# Altium integrated library labrador.IntLib: 32 symbols
Pins are listed as number, name and electrical type; pins without a type are passive.

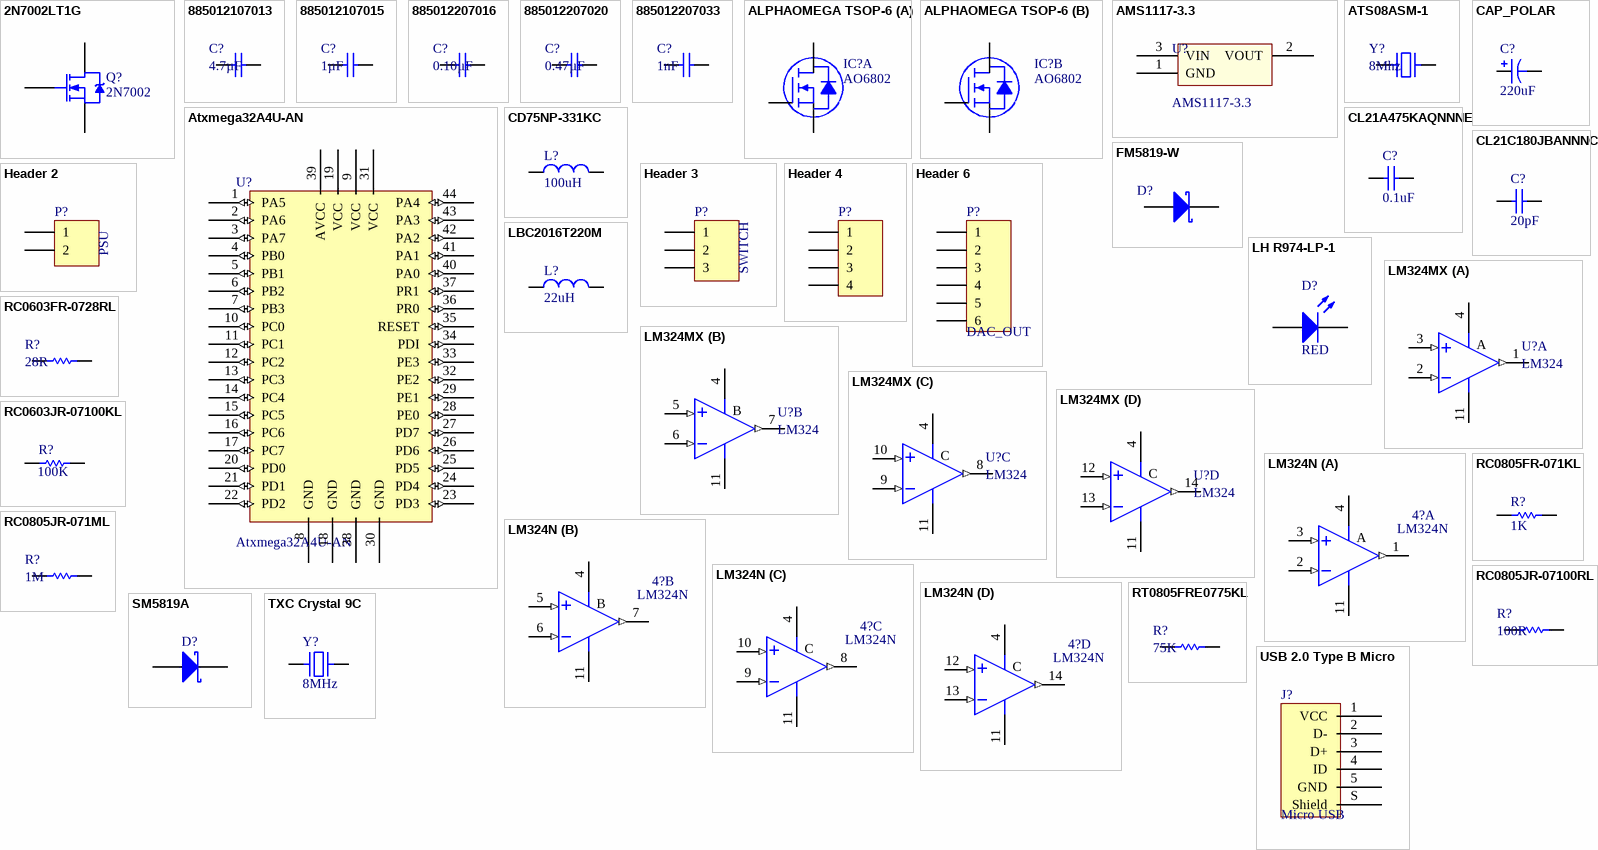
[diagram p0: symbols 2N7002LT1G to USB 2.0 Type B Micro]

## 2N7002LT1G
designator Q?, comment 2N7002
MOSFET N-CH 60V 0.115A SOT-23; Manufacturer: ON Semiconductor; Manufacturer Part Number: 2N7002LT1G; FET Type: N-Channel; Current - Continuous Drain (Id) @ 25°C: 115mA (Tc); Drive Voltage (Max Rds On,  Min Rds On): 5V, 10V; Vgs(th) (Max) @ Id: 2.5V @ 250µA; Input Capacitance (Ciss) (Max) @ Vds: 50pF @ 25V; Vgs (Max): ±20V; Power Dissipation (Max): 225mW (Ta); Rds On (Max) @ Id, Vgs: 7.5 Ohm @ 500mA, 10V; Supplier 1: Digi-Key; RoHS: RoHS Compliant; Category: Discrete Semiconductor Products; Stock 1: 446807; Pricing 1: 1=0.14, 10=0.129, 100=0.0704, 500=0.0433, 1000=0.02952 (USD); Packaging: Cut Tape (CT); Part Status: Active; Technology: MOSFET (Metal Oxide); Drain to Source Voltage (Vdss): 60V; Gate Charge (Qg) (Max) @ Vgs: -; FET Feature: -; Operating Temperature: -55°C ~ 150°C (TJ); Mounting Type: Surface Mount; Supplier Device Package: SOT-23-3 (TO-236); Package / Case: TO-236-3, SC-59, SOT-23-3; ComponentLink1URL: http://www.onsemi.com/pub_link/Collateral/2N7002L-D.PDF; ComponentLink1Description: http://www.onsemi.com/pub_link/Collateral/2N7002L-D.PDF
footprint SOT23-3P95_230X110L30X43N (Small Outline Transistor (SOT23), 0.95 mm pitch; 3 pin, 2.90 mm L X 1.30 mm W X 1.10 mm H body)
pins: 1 G, 2 S, 3 D

## 885012107013
designator C?, comment 4.7µF
4.7µF 16V Ceramic Capacitor X5R 0805 (2012 Metric) 0.079" L x 0.049" W (2.00mm x 1.25mm); Manufacturer: Wurth Electronics; Manufacturer Part Number: 885012107013; Capacitance: 4.7uF; Tolerance: 20%; Supplier 1: Farnell; Stock 1: 0; Mount: Surface Mount; Case/Package: 0805; Case Code (Metric): 2012; Case Code (Imperial): 0805; Min Operating Temperature: -55°C; Max Operating Temperature: 85°C; Packaging: Tape and Reel; Voltage Rating: 16V; Length: 0.079inch; Width: 0.049inch; Thickness: 0.057inch
footprint CAPC200X125X75L45N
pins: 1, 2

## 885012107015
designator C?, comment 1µF
1µF 25V Ceramic Capacitor X5R 0805 (2012 Metric) 0.079" L x 0.049" W (2.00mm x 1.25mm); Manufacturer: Wurth Electronics; Manufacturer Part Number: 885012107015; Capacitance: 1uF; Tolerance: 20%; Supplier 1: Farnell; Stock 1: 0; Mount: Surface Mount; Case/Package: 0805; Case Code (Metric): 2012; Case Code (Imperial): 0805; Min Operating Temperature: -55°C; Max Operating Temperature: 85°C; Packaging: Tape and Reel; Voltage Rating: 25V; Length: 0.079inch; Width: 0.049inch; Thickness: 0.053inch
footprint CAPC200X125X75L45N
pins: 1, 2

## 885012207016
designator C?, comment 0.10µF
0.10µF 10V Ceramic Capacitor X7R 0805 (2012 Metric) 0.079" L x 0.049" W (2.00mm x 1.25mm); Manufacturer: Wurth Electronics; Manufacturer Part Number: 885012207016; Capacitance: 100nF; Tolerance: 10%; Supplier 1: Mouser; Stock 1: 13980; Pricing 1: 1=0.1, 10=0.045, 50=0.045, 100=0.04, 1000=0.035, 10000=0.035 (USD); Mount: Surface Mount; Case/Package: 0805; Case Code (Metric): 2012; Case Code (Imperial): 0805; Min Operating Temperature: -55°C; Max Operating Temperature: 125°C; Packaging: Cut Tape; Voltage Rating: 10V; Length: 0.079inch; Width: 0.049inch; Thickness: 0.035inch
footprint CAPC200X125X75L45N
pins: 1, 2

## 885012207020
designator C?, comment 0.47µF
0.47µF 10V Ceramic Capacitor X7R 0805 (2012 Metric) 0.079" L x 0.049" W (2.00mm x 1.25mm); Manufacturer: Wurth Electronics; Manufacturer Part Number: 885012207020; Capacitance: 470nF; Tolerance: 10%; Supplier 1: Newark; Stock 1: 2295; Pricing 1: 5=0.11, 10=0.098, 25=0.095, 50=0.091, 100=0.088, 250=0.083, 500=0.078 (USD); Mount: Surface Mount; Case/Package: 0805; Case Code (Metric): 2012; Case Code (Imperial): 0805; Min Operating Temperature: -55°C; Max Operating Temperature: 125°C; Packaging: Tape and Reel; Voltage Rating: 10V; Length: 0.079inch; Width: 0.049inch; Thickness: 0.053inch
footprint CAPC200X125X75L45N
pins: 1, 2

## 885012207033
designator C?, comment 1nF
1000pF 16V Ceramic Capacitor X7R 0805 (2012 Metric) 0.079" L x 0.049" W (2.00mm x 1.25mm); Manufacturer: Wurth Electronics; Manufacturer Part Number: 885012207033; Tolerance: 10%; Supplier 1: Newark; Stock 1: 3260; Pricing 1: 10=0.035, 25=0.034, 50=0.032, 100=0.031, 250=0.03, 500=0.028 (USD); Mount: Surface Mount; Case/Package: 0805; Case Code (Metric): 2012; Case Code (Imperial): 0805; Min Operating Temperature: -55°C; Max Operating Temperature: 125°C; Packaging: Tape and Reel; Capacitance: 1nF; Voltage Rating: 16V; Length: 0.079inch; Width: 0.049inch; Thickness: 0.035inch
footprint CAPC200X125X75L45N
pins: 1, 2

## ALPHAOMEGA TSOP-6
designator IC?, comment AO6802
MOSFET 2N-CH 30V 3.5A 6-TSOP; Manufacturer: Alpha & Omega; Rds On (Max) at Id, Vgs: 50 mOhm @ 3.5A, 10V; Vgs(th) (Max) at Id: 2.5V @ 250µA; Gate Charge (Qg): 5nC @ 10V; Input Capacitance (Ciss) at Vds: 210pF @ 15V; Power - Max: 1.15W; Part Number: AO6802; PartId: 9696; Supplier 1: Digi-Key; Supplier Part Number 1: 785-1082-1-ND; ComponentLink1Description: Datasheet; ComponentLink1URL: http://aosmd.com/res/data_sheets/AO6802.pdf; ComponentLink2Description: Digi-Key Listing; ComponentLink2URL: https://www.digikey.com/product-detail/en/alpha-omega-semiconductor-inc/AO6802/785-1082-1-ND/1856025; Price: 0.17; Type: 2 N-Channel (Dual); Device Package: SC-74, SOT-457; Drain to Source Voltage (Vdss): 30V; Features: Logic Level Gate; Current Continuous Drain: 3.5A
footprint ALPHAOMEGA TSOP-6
part A pins: 1 G1, 5 S1, 6 D1
part B pins: 2 S2, 3 G2, 4 D2

## AMS1117-3.3
designator U?
Linear Reg 3.3, 1.2V dropout
footprint SOT223-4P229_700X180L36X74N (Small Outline Transistor (SOT223), 2.29 mm pitch; 4 pin, 6.505 mm L X 3.505 mm W X 1.80 mm H body)
pins: 1 GND (power), 2 VOUT (power), 3 VIN (power)

## ATS08ASM-1
designator Y?, comment 8Mhz
Crystals 8MHz 20pF; Manufacturer: CTS; Manufacturer Part Number: ATS08ASM-1; Frequency Tolerance: 30ppm; ESR (Equivalent Series Resistance): 60R; Frequency Stability: 50ppm; Supplier 1: Future Electronics; Stock 1: 0; Mount: Surface Mount; Min Operating Temperature: -20°C; Max Operating Temperature: 70°C; Frequency: 8MHz; Load Capacitance: 20pF; Packaging: Tape and Reel; Series Resistance: 60R; Package Quantity: 1000; Tolerance: 30ppm; Termination: SMD/SMT; Length: 0.437inch; Height: 0.169inch; Width: 4.83mm; Radiation Hardening: No; Lead Free: Lead Free; ComponentLink1URL: http://www.ctscorp.com/wp-content/uploads/ATS-ATSSM.pdf; ComponentLink1Description: http://www.ctscorp.com/wp-content/uploads/ATS-ATSSM.pdf; ComponentLink2URL: https://www.ctscorp.com/wp-content/uploads/ATS-ATSSM.pdf; ComponentLink2Description: https://www.ctscorp.com/wp-content/uploads/ATS-ATSSM.pdf
footprint TXC 9C
pins: 1, 2

## Atxmega32A4U-AN
designator U?
footprint QFP44P80_1200X1200X120L60X37N (Quad Flat Pack (QFP), 0.80 mm pitch; square, 11 pin X 11 pin, 10.00 mm L X 10.00 mm W X 1.20 mm H body)
pins: 1 PA5 (io), 2 PA6 (io), 3 PA7 (io), 4 PB0 (io), 5 PB1 (io), 6 PB2 (io), 7 PB3 (io), 8 GND (power), 9 VCC (power), 10 PC0 (io), 11 PC1 (io), 12 PC2 (io), 13 PC3 (io), 14 PC4 (io), 15 PC5 (io), 16 PC6 (io), 17 PC7 (io), 18 GND (power), 19 VCC (power), 20 PD0 (io), 21 PD1 (io), 22 PD2 (io), 23 PD3 (io), 24 PD4 (io), 25 PD5 (io), 26 PD6 (io), 27 PD7 (io), 28 PE0 (io), 29 PE1 (io), 30 GND (power), 31 VCC (power), 32 PE2 (io), 33 PE3 (io), 34 PDI (io), 35 RESET (io), 36 PR0 (io), 37 PR1 (io), 38 GND (power), 39 AVCC (power), 40 PA0 (io), 41 PA1 (io), 42 PA2 (io), 43 PA3 (io), 44 PA4 (io)

## CAP_POLAR
designator C?  value 220uF  (hidden comment: CAP_POLAR)
Aluminium Electrolyte 16V max
footprint Cap_Elec_470uF
footprint Cap_Elec_47uF
pins: 1, 2

## CD75NP-331KC
designator L?, comment 100uH
FIXED IND 100uH 400MA 1.26 OHM; Manufacturer: Sumida America Components Inc.; Manufacturer Part Number: CD75NP-331KC; Material - Core: Ferrite; Inductance: 330µH; Tolerance: ±10%; Shielding: Unshielded; DC Resistance (DCR): 1.26 Ohm Max; Supplier 1: Digi-Key; RoHS: RoHS Compliant; Category: Inductors, Coils, Chokes; Stock 1: 0; Pricing 1: 500=0.504 (USD); Packaging: Tape & Reel (TR); Part Status: Active; Type: -; Current Rating: 400mA; Current - Saturation: -; Q @ Freq: -; Frequency - Self Resonant: -; Ratings: -; Operating Temperature: -40°C ~ 100°C; Mounting Type: Surface Mount; Package / Case: Nonstandard; Supplier Device Package: -; Size / Dimension: 0.307" L x 0.276" W (7.80mm x 7.00mm); Height - Seated (Max): 0.217" (5.50mm); ComponentLink1URL: http://products.sumida.com/products/pdf/CD75.pdf; ComponentLink1Description: http://products.sumida.com/products/pdf/CD75.pdf
footprint INDM800X700X550L600X700N (Inductor, Molded Body; 8.00 mm L X 7.00 mm W X 5.50 mm H body)
footprint CD54-Modified
footprint CD54-Modified2 (CD54)
pins: 1, 2

## CL21A475KAQNNNE
designator C?, comment 0.1uF
CAP CER 4.7UF 25V X5R 0805; Manufacturer: Samsung Electro-Mechanics America, Inc.; Manufacturer Part Number: CL21A475KAQNNNE; Tolerance: ±10%; Capacitance: 4.7µF; Supplier 1: Digi-Key; RoHS: RoHS Compliant; Category: Capacitors; Stock 1: 233117; Pricing 1: 1=0.17, 10=0.122, 25=0.0892, 50=0.0694, 100=0.0574, 250=0.04752, 500=0.04026, 1000=0.03333 (USD); Packaging: Cut Tape (CT); Part Status: Active; Voltage - Rated: 25V; Temperature Coefficient: X5R; Operating Temperature: -55°C ~ 85°C; Features: -; Ratings: -; Applications: General Purpose; Mounting Type: Surface Mount, MLCC; Size / Dimension: 0.079" L x 0.049" W (2.00mm x 1.25mm); Height - Seated (Max): -; Thickness (Max): 0.055" (1.40mm); Lead Spacing: -; Lead Style: -; ComponentLink1URL: http://www.samsungsem.com/kr/support/product-search/mlcc/__icsFiles/afieldfile/2016/08/18/S_CL21A475KAQNNNE.pdf; ComponentLink1Description: http://www.samsungsem.com/kr/support/product-search/mlcc/__icsFiles/afieldfile/2016/08/18/S_CL21A475KAQNNNE.pdf; Supplier Part Number 1: 1276-1244-1-ND; Package / Case: 0805 (2012 Metric)
footprint CAPC200X125X140L45N (Capacitor, Chip; 2.00 mm L X 1.25 mm W X 1.40 mm H body)
pins: 1, 2

## CL21C180JBANNNC
designator C?, comment 20pF
CAP CER 20PF 50V NP0 0805; Manufacturer: Samsung Electro-Mechanics America, Inc.; Manufacturer Part Number: CL21C180JBANNNC; Capacitance: 18pF; Tolerance: ±5%; Temperature Coefficient: C0G, NP0; Supplier 1: Digi-Key; RoHS: RoHS Compliant; Category: Capacitors; Stock 1: 151885; Pricing 1: 1=0.1, 10=0.044, 25=0.032, 50=0.024, 100=0.0196, 250=0.0164, 500=0.014, 1000=0.011 (USD); Packaging: Digi-Reel®; Part Status: Active; Voltage - Rated: 50V; Operating Temperature: -55°C ~ 125°C; Features: -; Ratings: -; Applications: General Purpose; Mounting Type: Surface Mount, MLCC; Package / Case: 0805 (2012 Metric); Size / Dimension: 0.079" L x 0.049" W (2.00mm x 1.25mm); Height - Seated (Max): -; Thickness (Max): 0.030" (0.75mm); Lead Spacing: -; Lead Style: -; ComponentLink1URL: http://www.samsungsem.com/kr/support/product-search/mlcc/__icsFiles/afieldfile/2016/08/18/S_CL21C180JBANNNC.pdf; ComponentLink1Description: http://www.samsungsem.com/kr/support/product-search/mlcc/__icsFiles/afieldfile/2016/08/18/S_CL21C180JBANNNC.pdf; Supplier Part Number 1: 1276-1107-6-ND
footprint CAPC200X125X75L45N (Capacitor, Chip; 2.00 mm L X 1.25 mm W X 0.75 mm H body)
pins: 1, 2

## FM5819-W
designator D?
Schottky Diodes & Rectifiers Vr/40V Io/1A T/R; Manufacturer: Rectron; Manufacturer Part Number: FM5819-W; Max Surge Current: 25A; Element Configuration: Single; Max Reverse Leakage Current: 200uA; Supplier 1: Mouser; Stock 1: 20026; Pricing 1: 1=0.15, 10=0.15, 50=0.13, 100=0.1, 1000=0.072, 10000=0.042 (USD); Min Operating Temperature: -55°C; Max Operating Temperature: 150°C; Package Quantity: 5000; Packaging: Tape and Reel
footprint DIOM470X266X220L114X139N
pins: A, C

## Header 2
designator P?, comment PSU
Header, 2-Pin; LatestRevisionDate: 17-Jul-2002; LatestRevisionNote: Re-released for DXP Platform.; Publisher: Altium Limited
footprint HDR1X2 (Connector; Header; 2 Position)
signal-integrity model Connector
pins: 1, 2

## Header 3
designator P?, comment SWITCH
Header, 3-Pin; LatestRevisionDate: 17-Jul-2002; LatestRevisionNote: Re-released for DXP Platform.; Publisher: Altium Limited
footprint HDR1X3 (Connector; Header; 3 Position)
signal-integrity model Connector
pins: 1, 2, 3

## Header 4
designator P?  (value not drawn)
Header, 4-Pin; LatestRevisionDate: 17-Jul-2002; LatestRevisionNote: Re-released for DXP Platform.; Publisher: Altium Limited
footprint HDR1X4 (Connector; Header; 4 Position)
signal-integrity model Connector
pins: 1, 2, 3, 4

## Header 6
designator P?, comment DAC_OUT
Header, 6-Pin; LatestRevisionDate: 17-Jul-2002; LatestRevisionNote: Re-released for DXP Platform.; Publisher: Altium Limited
footprint HDR1X6 (Connector; Header; 6 Position)
signal-integrity model Connector
pins: 1, 2, 3, 4, 5, 6

## LBC2016T220M
designator L?, comment 22uH
Fixed Inductor 22uH 20% 165mA; Supplier 1: Arrow
footprint CAPC200X125X140L45N (Capacitor, Chip; 2.00 mm L X 1.25 mm W X 1.40 mm H body)
pins: 1, 2

## LH R974-LP-1
designator D?, comment RED
LED RED DIFFUSED 0805 SMD; Manufacturer: OSRAM Opto Semiconductors Inc.; Manufacturer Part Number: LH R974-LP-1; Lens Color: White; Millicandela Rating: 41mcd; Lens Style/Size: Rectangle with Flat Top, 1.30mm x 1.25mm; Voltage - Forward (Vf) (Typ): 1.8V; Current - Test: 20mA; Viewing Angle: 160°; Wavelength - Dominant: 645nm; Wavelength - Peak: 660nm; Supplier 1: Digi-Key; RoHS: RoHS Compliant; Category: Optoelectronics; Stock 1: 128309; Pricing 1: 1=0.25, 10=0.18, 25=0.1328, 100=0.0948, 250=0.06448, 500=0.0569, 1000=0.04457 (USD); Packaging: Cut Tape (CT); Part Status: Active; Color: Red; Lens Transparency: Diffused; Mounting Type: Surface Mount; Features: -; Package / Case: 0805 (2012 Metric); Size / Dimension: 2.00mm L x 1.25mm W; Height (Max): 0.90mm; ComponentLink1URL: http://www.osram-os.com/Graphics/XPic8/00078869_0.pdf; ComponentLink1Description: http://www.osram-os.com/Graphics/XPic8/00078869_0.pdf
footprint LEDC200X125X38L45N (LED, Chip; 2.00 mm L X 1.25 mm W X 0.38 mm H body)
pins: A, C K

## LM324MX
designator U?, comment LM324
IC OPAMP GP 14SOIC; Manufacturer: ON Semiconductor / Fairchild; Manufacturer Part Number: LM324MX; Min Supply Voltage: 3V; Max Supply Voltage: 32V; Min Dual Supply Voltage: 1.5V; Max Dual Supply Voltage: 16V; Voltage Gain: 100dB; Number of Channels: 4; Common Mode Rejection Ratio: 65dB; Output Current: 40mA; Input Bias Current: 250nA; Input Offset Voltage (Vos): 7mV; Nominal Supply Current: 1.2mA; Operating Supply Current: 1mA; Power Dissipation: 640mW; Min Input Voltage: -300mV; Max Frequency: 20kHz; Supplier 1: Future Electronics; Stock 1: 0; Mount: Surface Mount; Case/Package: SOP; Number of Pins: 14; Weight: 0.2183g; Contact Plating: Matte,Tin; Min Operating Temperature: 0°C; Max Operating Temperature: 70°C; Packaging: Tape and Reel; Number of Circuits: 4; Package Quantity: 3000; Output Current per Channel: 40mA; Number of Elements: 4; Power Supply Rejection Ratio (PSRR): 65dB; Operating Supply Voltage: 32V; Number of Amplifiers: 4; Max Power Dissipation: 640mW; Max Input Voltage: 32V; Length: 8.76mm; Height: 1.65mm; Width: 4.2mm; Radiation Hardening: No; REACH SVHC: No SVHC; Lead Free: Lead Free; ComponentLink1URL: https://www.fairchildsemi.com/datasheets/LM/LM2902.pdf; ComponentLink1Description: https://www.fairchildsemi.com/datasheets/LM/LM2902.pdf; ComponentLink2URL: http://www.fairchildsemi.com/datasheets/LM/LM324.pdf; ComponentLink2Description: http://www.fairchildsemi.com/datasheets/LM/LM324.pdf; ComponentLink3URL: https://www.fairchildsemi.com/datasheets/LM/LM324.pdf; ComponentLink3Description: https://www.fairchildsemi.com/datasheets/LM/LM324.pdf; ComponentLink4URL: http://www.fairchildsemi.com/ds/LM/LM2902.pdf; ComponentLink4Description: http://www.fairchildsemi.com/ds/LM/LM2902.pdf; ComponentLink5URL: http://www.fairchildsemi.com/ds/LM/LM324.pdf; ComponentLink5Description: http://www.fairchildsemi.com/ds/LM/LM324.pdf; ComponentLink6URL: http://datasheet.iiic.cc/fairchild/LM324MX.pdf; ComponentLink6Description: http://datasheet.iiic.cc/fairchild/LM324MX.pdf
footprint SOIC14P127_865X600X175L83X41N
part A pins: 1 OUTA (out), 2 IN- (in), 3 IN+ (in), 4 V+ (power), 11 V- (power)
part B pins: 4 V+ (power), 5 IN+ (in), 6 IN- (in), 7 OUTB (out), 11 V- (power)
part C pins: 4 V+ (power), 8 OUTC (out), 9 IN- (in), 10 IN+ (in), 11 V- (power)
part D pins: 4 V+ (power), 11 V- (power), 12 IN+ (in), 13 IN- (in), 14 OUTD (out)
part A text: A
part B text: B
part C text: C
part D text: C

## LM324N
designator 4?
footprint SOIC14P127_865X600X175L83X41N (Small Outline IC (SOIC), 1.27 mm pitch; 14 pin, 8.65 mm L X 3.90 mm W X 1.75 mm H body)
part A pins: 1 OUTA (out), 2 IN- (in), 3 IN+ (in), 4 V+ (power), 11 V- (power)
part B pins: 4 V+ (power), 5 IN+ (in), 6 IN- (in), 7 OUTB (out), 11 V- (power)
part C pins: 4 V+ (power), 8 OUTC (out), 9 IN- (in), 10 IN+ (in), 11 V- (power)
part D pins: 4 V+ (power), 11 V- (power), 12 IN+ (in), 13 IN- (in), 14 OUTD (out)
part A text: A
part B text: B
part C text: C
part D text: C

## RC0603FR-0728RL
designator R?, comment 28R
RES SMD 28 OHM 1% 1/10W 0603; Manufacturer: Yageo; Manufacturer Part Number: RC0603FR-0728RL; Temperature Coefficient: 100ppm/°C; Power Rating: 100mW; Voltage Rating: 50V; Supplier 1: Future Electronics; Stock 1: 0; Case/Package: 0603; Contact Plating: Matte,Tin; Case Code (Metric): 1608; Case Code (Imperial): 0603; Min Operating Temperature: -55°C; Max Operating Temperature: 155°C; Resistance: 28R; Tolerance: 1%; Composition: Thick Film; Package Quantity: 1; Packaging: Tape and Reel; Number of Terminations: 2; Termination: SMD/SMT; Military Standard: Not; Max Power Dissipation: 100mW; Voltage Rating (DC): 50V; Features: Moisture Resistant; Length: 0.063inch; Height: 0.022inch; Width: 0.031inch; Depth: 0.8mm; Lead Free: Lead Free; ComponentLink1URL: http://www.yageo.com/documents/recent/PYu-RC_Group_51_RoHS_L_9.pdf; ComponentLink1Description: http://www.yageo.com/documents/recent/PYu-RC_Group_51_RoHS_L_9.pdf; ComponentLink2URL: http://www.yageo.com/documents/recent/PYu-RC0603_51_RoHS_L_4.pdf; ComponentLink2Description: http://www.yageo.com/documents/recent/PYu-RC0603_51_RoHS_L_4.pdf
footprint RESC160X80X55L25N
pins: 1, 2

## RC0603JR-07100KL
designator R?, comment 100K
RES SMD 100K OHM 5% 1/10W 0603; Manufacturer: Yageo; Manufacturer Part Number: RC0603JR-07100KL; Power (Watts): 0.1W, 1/10W; Temperature Coefficient: ±100ppm/°C; Supplier 1: Digi-Key; RoHS: RoHS Compliant; Category: Resistors; Stock 1: 3510109; Pricing 1: 1=0.1, 10=0.01, 25=0.0072, 50=0.0054, 100=0.004, 250=0.00308, 500=0.00244, 1000=0.0018 (USD); Packaging: Cut Tape (CT); Part Status: Active; Resistance (Ohms): 100k; Tolerance: ±5%; Composition: Thick Film; Features: Moisture Resistant; Operating Temperature: -55°C ~ 155°C; Package / Case: 0603 (1608 Metric); Supplier Device Package: 0603; Size / Dimension: 0.063" L x 0.031" W (1.60mm x 0.80mm); Height - Seated (Max): 0.022" (0.55mm); Number of Terminations: 2; Failure Rate: -; ComponentLink1URL: http://www.yageo.com/NewPortal/yageodocoutput?fileName=/pdf/R-Chip/PYu-RC_Group_51_RoHS_L_4.pdf; ComponentLink1Description: http://www.yageo.com/NewPortal/yageodocoutput?fileName=/pdf/R-Chip/PYu-RC_Group_51_RoHS_L_4.pdf; Supplier 2: Digi-Key; Supplier Part Number 1: 311-100KGRCT-ND
footprint RESC160X80X55L25N (Resistor, Chip; 1.60 mm L X 0.80 mm W X 0.55 mm H body)
pins: 1, 2

## RC0805FR-071KL
designator R?, comment 1K
RES SMD 1K OHM 1% 1/8W 0805; Manufacturer: Yageo; Manufacturer Part Number: RC0805FR-071KL; Power (Watts): 0.125W, 1/8W; Temperature Coefficient: ±100ppm/°C; Supplier 1: Digi-Key; RoHS: RoHS Compliant; Category: Resistors; Stock 1: 6960895; Pricing 1: 1=0.1, 10=0.019, 25=0.0136, 50=0.0104, 100=0.0077, 250=0.00584, 500=0.00468, 1000=0.00345 (USD); Packaging: Cut Tape (CT); Part Status: Active; Resistance (Ohms): 1k; Tolerance: ±1%; Composition: Thick Film; Features: Moisture Resistant; Operating Temperature: -55°C ~ 155°C; Package / Case: 0805 (2012 Metric); Supplier Device Package: 0805; Size / Dimension: 0.079" L x 0.049" W (2.00mm x 1.25mm); Height - Seated (Max): 0.024" (0.60mm); Number of Terminations: 2; Failure Rate: -; ComponentLink1URL: http://www.yageo.com/NewPortal/yageodocoutput?fileName=/pdf/R-Chip/PYu-RC_Group_51_RoHS_L_4.pdf; ComponentLink1Description: http://www.yageo.com/NewPortal/yageodocoutput?fileName=/pdf/R-Chip/PYu-RC_Group_51_RoHS_L_4.pdf
footprint RESC200X125X50L35N (Resistor, Chip; 2.00 mm L X 1.25 mm W X 0.50 mm H body)
pins: 1, 2

## RC0805JR-071ML
designator R?, comment 1M
RES SMD 1M OHM 5% 1/8W 0805; Manufacturer: Yageo; Manufacturer Part Number: RC0805JR-071ML; Resistance: 1MR; Temperature Coefficient: 100ppm/°C; Power Rating: 125mW; Voltage Rating: 150V; Supplier 1: Future Electronics; Stock 1: 0; Case/Package: 0805; Case Code (Imperial): 0805; Case Code (Metric): 2012; Contact Plating: Lead,Matte,Tin; Min Operating Temperature: -55°C; Max Operating Temperature: 155°C; Tolerance: 5%; Composition: Thick Film; Packaging: Tape and Reel; Package Quantity: 1; Termination: SMD/SMT; Number of Terminations: 2; Military Standard: Not; Max Power Dissipation: 125mW; Features: Moisture Resistant; Length: 0.079inch; Height: 0.024inch; Width: 0.049inch; Depth: 1.25mm; Radiation Hardening: No; REACH SVHC: Unknown; Lead Free: Lead Free; ComponentLink1URL: http://www.yageo.com/documents/recent/PYu-RC_Group_51_RoHS_L_9.pdf; ComponentLink1Description: http://www.yageo.com/documents/recent/PYu-RC_Group_51_RoHS_L_9.pdf; ComponentLink2URL: http://www.yageo.ru/pdf/RC0805.pdf; ComponentLink2Description: http://www.yageo.ru/pdf/RC0805.pdf; ComponentLink3URL: http://www.farnell.com/datasheets/442941.pdf; ComponentLink3Description: http://www.farnell.com/datasheets/442941.pdf; ComponentLink4URL: http://www.farnell.com/datasheets/444164.pdf; ComponentLink4Description: http://www.farnell.com/datasheets/444164.pdf
footprint RESC200X125X50L35N
pins: 1, 2

## RC0805JR-07100RL
designator R?, comment 100R
YAGEO         RC0805JR-07100RL             RES, THICK FILM, 100R, 5%, 0.125W, 0805; Temperature Coefficient: 100ppm/°C; Power Rating: 125mW; Voltage Rating: 150V; Supplier 1: Future Electronics; Manufacturer: Yageo; Manufacturer Part Number: RC0805JR-07100RL; Stock 1: 0; Case/Package: 0805; Contact Plating: Lead,Matte,Tin; Case Code (Imperial): 0805; Case Code (Metric): 2012; Min Operating Temperature: -55°C; Max Operating Temperature: 155°C; Tolerance: 5%; Resistance: 100R; Composition: Thick Film; Packaging: Tape and Reel; Termination: SMD/SMT; Radiation Hardening: No; REACH SVHC: Unknown; Lead Free: Lead Free; ComponentLink1URL: http://www.farnell.com/datasheets/444164.pdf; ComponentLink1Description: http://www.farnell.com/datasheets/444164.pdf; ComponentLink2URL: http://www.farnell.com/datasheets/2167052.pdf; ComponentLink2Description: http://www.farnell.com/datasheets/2167052.pdf; ComponentLink3URL: http://www.farnell.com/datasheets/442941.pdf; ComponentLink3Description: http://www.farnell.com/datasheets/442941.pdf; ComponentLink4URL: http://www.yageo.ru/pdf/RC0805.pdf; ComponentLink4Description: http://www.yageo.ru/pdf/RC0805.pdf
footprint RESC200X125X50L35N
pins: 1, 2

## RT0805FRE0775KL
designator R?, comment 75K
RES SMD 75K OHM 1% 1/8W 0805; Manufacturer: Yageo; Manufacturer Part Number: RT0805FRE0775KL; Resistance: 75kR; Temperature Coefficient: 50ppm/°C; Power Rating: 125mW; Voltage Rating: 150V; Supplier 1: Arrow; Stock 1: 0; Case/Package: 0805; Weight: 0.000194oz; Contact Plating: Matte,Tin; Case Code (Metric): 2012; Case Code (Imperial): 0805; Min Operating Temperature: -55°C; Max Operating Temperature: 125°C; Tolerance: 1%; Composition: Thin Film; Package Quantity: 5000; Packaging: Tape and Reel; Number of Terminations: 2; Termination: SMD/SMT; Military Standard: Not; Max Power Dissipation: 125mW; Voltage Rating (DC): 150V; Length: 2mm; Height: 0.024inch; Width: 0.049inch; Depth: 1.25mm; Radiation Hardening: No; Lead Free: Lead Free; ComponentLink1URL: http://www.yageo.com/documents/recent/PYu-RT_1-to-0.01_RoHS_L_8.pdf; ComponentLink1Description: http://www.yageo.com/documents/recent/PYu-RT_1-to-0.01_RoHS_L_8.pdf; ComponentLink2URL: http://www.mouser.com/ds/2/447/yageodocoutput-1125656.pdf; ComponentLink2Description: http://www.mouser.com/ds/2/447/yageodocoutput-1125656.pdf
footprint RESC200X125X50L35N
pins: 1, 2

## SM5819A
designator D?, comment DIODE SCHOTTKY 40V 1A  (value not drawn)
footprint DIOM470X266X220L114X139N (Diode, Molded Body; 4.70 mm L X 2.665 mm W X 2.20 mm H body)
pins: A, C

## TXC Crystal 9C
designator Y?, comment 8MHz
CRYSTAL 8.0000MHZ 18PF SMD; Part Number: 9C-8.000MAAJ-T; Manufacturer: TXC CORPORATION; Frequency Stability: 30ppm; ESR: 80 Ohm; Operating Mode: Fundamental; PartId: 8661; Supplier 1: Digi-Key; Supplier Part Number 1: 887-1048-2-ND; ComponentLink1Description: Datasheet; ComponentLink1URL: http://www.txccrystal.com/images/pdf/9c.pdf; ComponentLink2Description: Digi-Key Listing; ComponentLink2URL: https://www.digikey.com/product-detail/en/9C-8.000MAAJ-T/887-1048-2-ND/2118732; Price: 0.224; Type: MHz Crystal; Device Package: HC49/US; Series: 9C; Frequency: 8MHz; Frequency Tolerance: 30ppm; Load Capacitance: 18pF
footprint TXC 9C
pins: 1, 2

## USB 2.0 Type B Micro
designator J?, comment Micro USB
CONN USB MICRO B RECPT SMT R/A; Part Number: 10118193-0001LF; Manufacturer: FCI; Number Of Positions: 5; PartId: 7864; Supplier 1: Digi-Key; Supplier Part Number 1: 609-4616-2-ND; ComponentLink1Description: Datasheet; ComponentLink1URL: http://portal.fciconnect.com/Comergent//fci/drawing/10118193.pdf; ComponentLink2Description: Digi-Key Listing; ComponentLink2URL: http://www.digikey.ca/product-detail/en/10118193-0001LF/609-4616-2-ND/2785388; Price: 0.2823; Type: USB - micro B; Series: USB 2.0
footprint FCI USB 10118193-0001LF
pins: 1 VCC, 2 D-, 3 D+, 4 ID, 5 GND, S Shield